# Altium schematic symbol library HMC1060LP3E.SchLib: 1 symbol
Pins are listed as number, name and electrical type; pins without a type are passive.

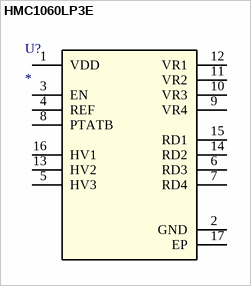
[diagram p0: symbol HMC1060LP3E]

## HMC1060LP3E
designator U?
No Description Available; Copyright: Copyright (C) 2018 Accelerated Designs. All rights reserved; RefDes: RefDes; Type: DEV; Value: Value
footprint HCP_16_3
pins: 1 VDD, 2 GND, 3 EN, 4 REF, 5 HV3, 6 RD3, 7 RD4, 8 PTATB, 9 VR4, 10 VR3, 11 VR2, 12 VR1, 13 HV2, 14 RD2, 15 RD1, 16 HV1, 17 EP